# EAGLE library part MULTIPLEXER8 (library digital)
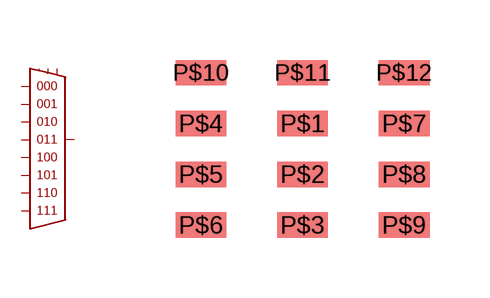
[diagram p6: symbol with the pads of 12PIN; footprint 12PIN]

Designator prefix -

## MULTIPLEXER8  [12PIN]
P$1  D0
P$2  D1
P$3  D2
P$4  D3
P$5  D4
P$6  D5
P$7  D6
P$8  D7
P$9  S
P$10  S1
P$11  S2
P$12  Y

## Footprint 12PIN (pad centres in mm)
smd 1.27 x 0.635: P$1 0,1.27; P$2 0,0; P$3 0,-1.27; P$4 -2.54,1.27; P$5 -2.54,0; P$6 -2.54,-1.27; P$7 2.54,1.27; P$8 2.54,0; P$9 2.54,-1.27; P$10 -2.54,2.54; P$11 0,2.54; P$12 2.54,2.54